# Altium footprint library Crystal.PcbLib: 1 footprints
Each footprint in its own frame and in the unit in brackets; x right, y up, seen from the top. Pads: shape width x height; smd on the part's side, far side on the other; paste and mask are expansions set on the pad; w line width, h text height; cw(c..) or ccw(c..) is an arc to the next point about the centre after c.
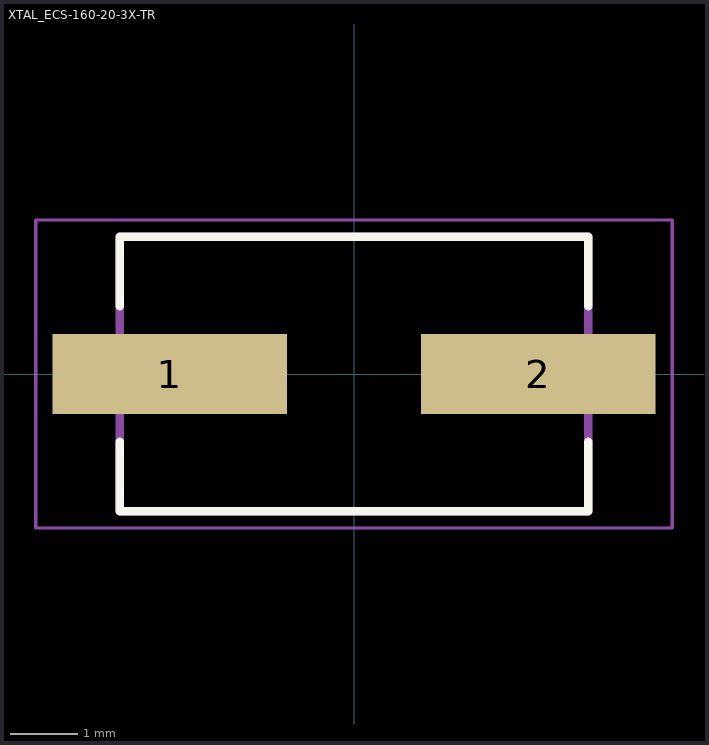
[diagram p0: the footprint, top view; thin cyan lines are the x and y axes]

## XTAL_ECS-160-20-3X-TR [mm]
pads (2):
  rect 3.5x1.2 smd: 1(-2.75,0) 2(2.75,0)
Top Overlay:
  lines w0.127: -3.5,-1.01 -3.5,-2.05 3.5,-2.05 3.5,-1.01 ; -3.5,1.01 -3.5,2.05 3.5,2.05 3.5,1.01
Mechanical 13:
  lines w0.127: -3.5,-2.05 3.5,-2.05 3.5,2.05 -3.5,2.05 -3.5,-2.05
Mechanical 15:
  lines w0.05: -4.75,-2.3 4.75,-2.3 4.75,-0.85 4.75,0.85 4.75,2.3 -4.75,2.3 -4.75,0.85 -4.75,-0.85 -4.75,-2.3
3D body "16MHz ±30ppm Crystal 20pF 50 Ohms.STEP": height 2.3, standoff 0, extent -3.818,-2.068 3.782,2.032